# Altium footprint library XT90PB-M.PcbLib: 1 footprints
Each footprint in its own frame and in the unit in brackets; x right, y up, seen from the top. Pads: shape width x height; smd on the part's side, far side on the other; paste and mask are expansions set on the pad; w line width, h text height; cw(c..) or ccw(c..) is an arc to the next point about the centre after c.
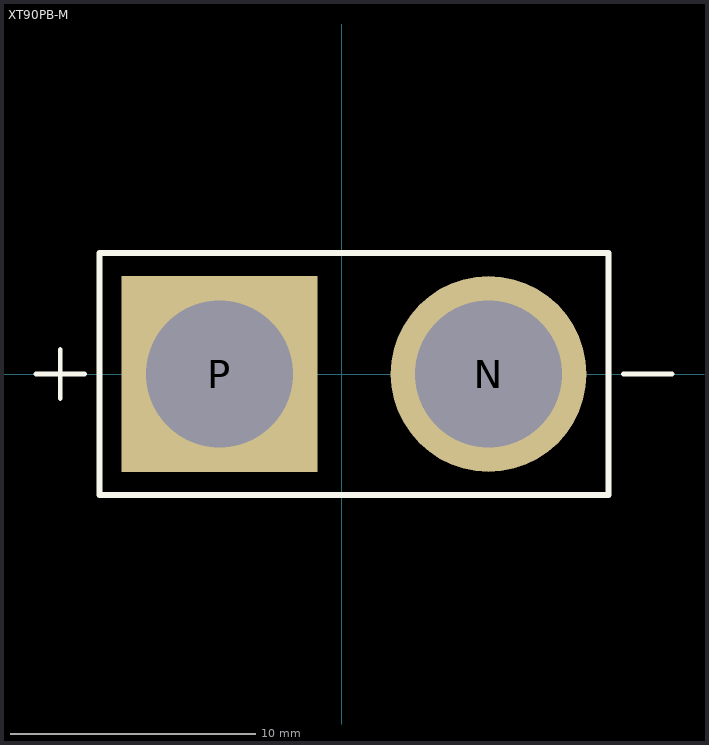
[diagram p0: the footprint, top view; thin cyan lines are the x and y axes]

## XT90PB-M [mm]
pads (2):
  round 8 hole 6 mask+0.102: N(6,0)
  rect 8x8 hole 6 mask+0.102: P(-5,0)
Top Overlay:
  lines w0.2: -12.5,0 -10.5,0 ; -11.5,-1 -11.5,1 ; 11.5,0 13.5,0
  lines w0.25: -9.9,-4.95 -9.9,0 -9.9,4.95 10.9,4.95 10.9,0 10.9,-4.95 -9.9,-4.95
3D body "XT90PB-M--3DModel-STEP-56544.STEP": height 20.7, standoff -2.8, extent -10.15,-4.95 11.15,4.95